# EAGLE library part MICROBUILDER_FEATHERWING (library Adafruit nRF52840 Bluefruit Feather Express Rev D)
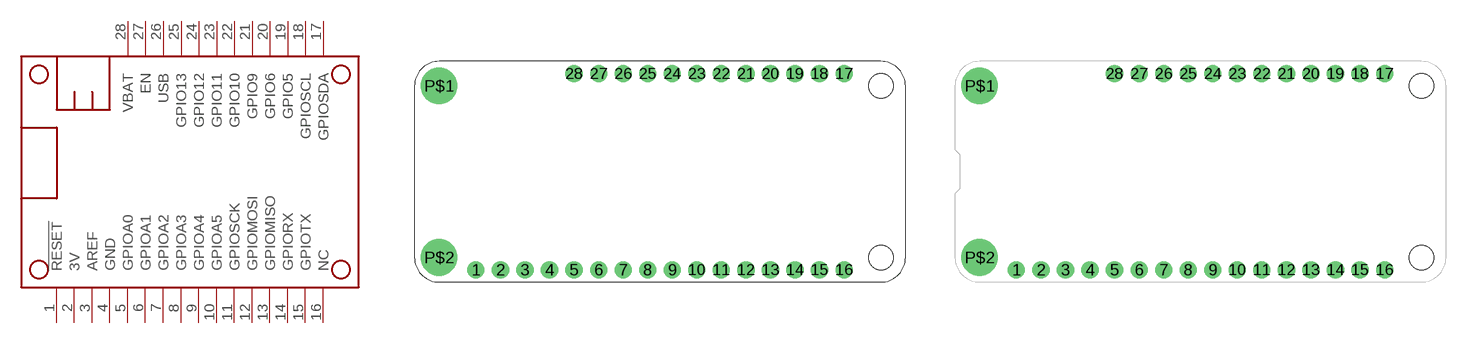
[diagram p0: symbol with the pads of MICROBUILDER_FEATHERWING; footprints MICROBUILDER_FEATHERWING, MICROBUILDER_FEATHERWING_NODIM]

Designator prefix MS

## MICROBUILDER_FEATHERWING  [MICROBUILDER_FEATHERWING]
1  !RESET  in
2  3V  sup
3  AREF  pas
4  GND  pwr
5  GPIOA0
6  GPIOA1
7  GPIOA2
8  GPIOA3
9  GPIOA4
10  GPIOA5
11  GPIOSCK
12  GPIOMOSI
13  GPIOMISO
14  GPIORX
15  GPIOTX
16  NC  pas
17  GPIOSDA
18  GPIOSCL
19  GPIO5
20  GPIO6
21  GPIO9
22  GPIO10
23  GPIO11
24  GPIO12
25  GPIO13
26  USB  sup
27  EN  pas
28  VBAT  sup

## MICROBUILDER_FEATHERWING_NODIM  [MICROBUILDER_FEATHERWING_NODIM]
Pads as for MICROBUILDER_FEATHERWING

## MICROBUILDER_FEATHERWING_NOHOLES  [MICROBUILDER_FEATHERWING_NOHOLES]
Pads as for MICROBUILDER_FEATHERWING

## MICROBUILDER_FEATHERWING_SMTDUAL  [MICROBUILDER_FEATHERWING_SMT2]
1  !RESET  in
1'  !RESET  in
2  3V  sup
2'  3V  sup
3  AREF  pas
3'  AREF  pas
4  GND  pwr
4'  GND  pwr
5  GPIOA0
5'  GPIOA0
6  GPIOA1
6'  GPIOA1
7  GPIOA2
7'  GPIOA2
8  GPIOA3
8'  GPIOA3
9  GPIOA4
9'  GPIOA4
10  GPIOA5
10'  GPIOA5
11  GPIOSCK
11'  GPIOSCK
12  GPIOMOSI
12'  GPIOMOSI
13  GPIOMISO
13'  GPIOMISO
14  GPIORX
14'  GPIORX
15  GPIOTX
15'  GPIOTX
16  NC  pas
16'  NC  pas
17  GPIOSDA
17'  GPIOSDA
18  GPIOSCL
18'  GPIOSCL
19  GPIO5
19'  GPIO5
20  GPIO6
20'  GPIO6
21  GPIO9
21'  GPIO9
22  GPIO10
22'  GPIO10
23  GPIO11
23'  GPIO11
24  GPIO12
24'  GPIO12
25  GPIO13
25'  GPIO13
26  USB  sup
26'  USB  sup
27  EN  pas
27'  EN  pas
28  VBAT  sup
28'  VBAT  sup

## MICROBUILDER_FEATHERWING_SMTDUALNOHOLES  [MICROBUILDER_FEATHERWING_SMT_NOHOLES]
Pads as for MICROBUILDER_FEATHERWING_SMT2

## Footprint MICROBUILDER_FEATHERWING (pad centres in mm)
drill 1 pad 1.778: 1 6.35,1.27; 2 8.89,1.27; 3 11.43,1.27; 4 13.97,1.27; 5 16.51,1.27; 6 19.05,1.27; 7 21.59,1.27; 8 24.13,1.27; 9 26.67,1.27; 10 29.21,1.27; 11 31.75,1.27; 12 34.29,1.27; 13 36.83,1.27; 14 39.37,1.27; 15 41.91,1.27; 16 44.45,1.27; 17 44.45,21.59; 18 41.91,21.59; 19 39.37,21.59; 20 36.83,21.59; 21 34.29,21.59; 22 31.75,21.59; 23 29.21,21.59; 24 26.67,21.59; 25 24.13,21.59; 26 21.59,21.59; 27 19.05,21.59; 28 16.51,21.59
drill 2.5 pad 3.81: P$1 2.54,20.32; P$2 2.54,2.54
hole 2.54 at 48.26,20.32
hole 2.54 at 48.26,2.54

## Footprint MICROBUILDER_FEATHERWING_NODIM (pad centres in mm)
drill 1 pad 1.778: 1 6.35,1.27; 2 8.89,1.27; 3 11.43,1.27; 4 13.97,1.27; 5 16.51,1.27; 6 19.05,1.27; 7 21.59,1.27; 8 24.13,1.27; 9 26.67,1.27; 10 29.21,1.27; 11 31.75,1.27; 12 34.29,1.27; 13 36.83,1.27; 14 39.37,1.27; 15 41.91,1.27; 16 44.45,1.27; 17 44.45,21.59; 18 41.91,21.59; 19 39.37,21.59; 20 36.83,21.59; 21 34.29,21.59; 22 31.75,21.59; 23 29.21,21.59; 24 26.67,21.59; 25 24.13,21.59; 26 21.59,21.59; 27 19.05,21.59; 28 16.51,21.59
drill 2.5 pad 3.81: P$1 2.54,20.32; P$2 2.54,2.54
hole 2.54 at 48.26,20.32
hole 2.54 at 48.26,2.54

## Footprint MICROBUILDER_FEATHERWING_NOHOLES (pad centres in mm)
drill 1 pad 1.778: 1 6.35,1.27; 2 8.89,1.27; 3 11.43,1.27; 4 13.97,1.27; 5 16.51,1.27; 6 19.05,1.27; 7 21.59,1.27; 8 24.13,1.27; 9 26.67,1.27; 10 29.21,1.27; 11 31.75,1.27; 12 34.29,1.27; 13 36.83,1.27; 14 39.37,1.27; 15 41.91,1.27; 16 44.45,1.27; 17 44.45,21.59; 18 41.91,21.59; 19 39.37,21.59; 20 36.83,21.59; 21 34.29,21.59; 22 31.75,21.59; 23 29.21,21.59; 24 26.67,21.59; 25 24.13,21.59; 26 21.59,21.59; 27 19.05,21.59; 28 16.51,21.59

## Footprint MICROBUILDER_FEATHERWING_SMT2 (pad centres in mm)
smd 1.524 x 2.54: 1 6.35,2.413; 1' 6.35,-2.413; 2 8.89,2.413; 2' 8.89,-2.413; 15 41.91,2.413; 15' 41.91,-2.413; 16 44.45,2.413; 16' 44.45,-2.413; 17 44.45,20.447; 17' 44.45,25.273; 18 41.91,20.447; 18' 41.91,25.273; 27 19.05,20.447; 27' 19.05,25.273; 28 16.51,20.447; 28' 16.51,25.273
smd 1.524 x 3.048: 3 11.43,2.159; 3' 11.43,-2.159; 4 13.97,2.159; 4' 13.97,-2.159; 5 16.51,2.159; 5' 16.51,-2.159; 6 19.05,2.159; 6' 19.05,-2.159; 7 21.59,2.159; 7' 21.59,-2.159; 8 24.13,2.159; 8' 24.13,-2.159; 9 26.67,2.159; 9' 26.67,-2.159; 10 29.21,2.159; 10' 29.21,-2.159; 11 31.75,2.159; 11' 31.75,-2.159; 12 34.29,2.159; 12' 34.29,-2.159; 13 36.83,2.159; 13' 36.83,-2.159; 14 39.37,2.159; 14' 39.37,-2.159; 19 39.37,20.701; 19' 39.37,25.019; 20 36.83,20.701; 20' 36.83,25.019; 21 34.29,20.701; 21' 34.29,25.019; 22 31.75,20.701; 22' 31.75,25.019; 23 29.21,20.701; 23' 29.21,25.019; 24 26.67,20.701; 24' 26.67,25.019; 25 24.13,20.701; 25' 24.13,25.019; 26 21.59,20.701; 26' 21.59,25.019
hole 1.8 at 17.78,22.86
hole 1.8 at 43.18,22.86
hole 1.8 at 7.62,0
hole 1.8 at 43.18,0

## Footprint MICROBUILDER_FEATHERWING_SMT_NOHOLES (pad centres in mm)
smd 1.524 x 2.54: 1 6.35,2.413; 1' 6.35,-2.413; 2 8.89,2.413; 2' 8.89,-2.413; 15 41.91,2.413; 15' 41.91,-2.413; 16 44.45,2.413; 16' 44.45,-2.413; 17 44.45,20.447; 17' 44.45,25.273; 18 41.91,20.447; 18' 41.91,25.273; 27 19.05,20.447; 27' 19.05,25.273; 28 16.51,20.447; 28' 16.51,25.273
smd 1.524 x 3.048: 3 11.43,2.159; 3' 11.43,-2.159; 4 13.97,2.159; 4' 13.97,-2.159; 5 16.51,2.159; 5' 16.51,-2.159; 6 19.05,2.159; 6' 19.05,-2.159; 7 21.59,2.159; 7' 21.59,-2.159; 8 24.13,2.159; 8' 24.13,-2.159; 9 26.67,2.159; 9' 26.67,-2.159; 10 29.21,2.159; 10' 29.21,-2.159; 11 31.75,2.159; 11' 31.75,-2.159; 12 34.29,2.159; 12' 34.29,-2.159; 13 36.83,2.159; 13' 36.83,-2.159; 14 39.37,2.159; 14' 39.37,-2.159; 19 39.37,20.701; 19' 39.37,25.019; 20 36.83,20.701; 20' 36.83,25.019; 21 34.29,20.701; 21' 34.29,25.019; 22 31.75,20.701; 22' 31.75,25.019; 23 29.21,20.701; 23' 29.21,25.019; 24 26.67,20.701; 24' 26.67,25.019; 25 24.13,20.701; 25' 24.13,25.019; 26 21.59,20.701; 26' 21.59,25.019